# Altium schematic symbol library 二极管.SchLib: 14 symbols
Pins are listed as number, name and electrical type; pins without a type are passive.

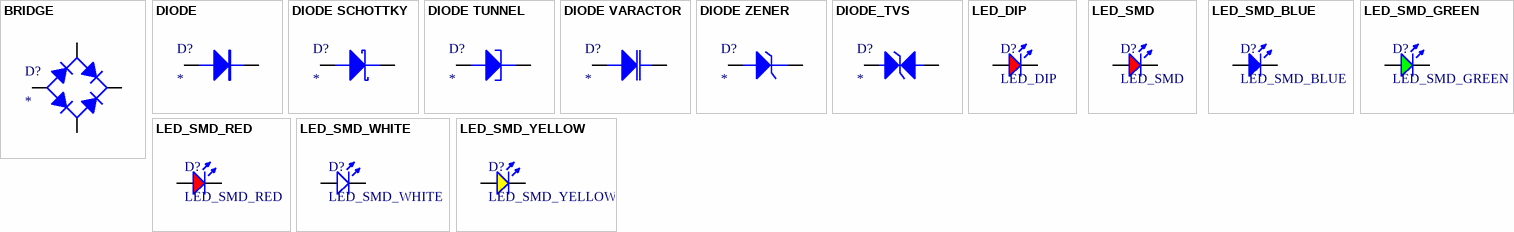
[diagram p0: symbols BRIDGE to LED_SMD_YELLOW]

## BRIDGE
designator D?
整流桥
footprint Bridge_br3
footprint Bridge_BR8
footprint Bridge_DB
footprint Bridge_DB107
footprint Bridge_DB107S
footprint Bridge_DBS
footprint Bridge_GBP
footprint Bridge_GBU
footprint Bridge_KBL
footprint Bridge_KBP
footprint Bridge_KBPC
footprint Bridge_KBPC2
footprint Bridge_KBU
footprint Bridge_MB10S
footprint Bridge_MBF
footprint Bridge_WOM
footprint Bridge_MBM
footprint Bridge_MBS
pins: AC1, AC2, DC+, DC-

## DIODE
designator D?
普通二极管
footprint DO-15
footprint DO-15L
footprint DO-15LV
footprint DO-15V
footprint DO-27
footprint DO-27V
footprint DO-35
footprint DO-35V
footprint DO-41
footprint DO-41G
footprint DO-41GV
footprint DO-41V
footprint DO-201AD
footprint DO-201ADV
footprint DIODE_1206
footprint DO-214AC/SMA (塑封二极管)
footprint DO-214AA/SMB (塑封二极管)
footprint DO-214AB/SMC (塑封二极管)
footprint SOD-123 (塑封二极管)
footprint SOD-323 (塑封二极管)
footprint SOD-523 (塑封二极管)
pins: A, K

## DIODE SCHOTTKY
designator D?
肖特基二极管
footprint DO-15
footprint DO-15L
footprint DO-15LV
footprint DO-15V
footprint DO-27
footprint DO-27V
footprint DO-35
footprint DO-35V
footprint DO-41
footprint DO-41G
footprint DO-41GV
footprint DO-41V
footprint DO-201AD
footprint DO-201ADV
footprint DIODE_1206
footprint DO-214AA/SMB (塑封二极管)
footprint DO-214AB/SMC (塑封二极管)
footprint DO-214AC/SMA (塑封二极管)
footprint SOD-123 (塑封二极管)
footprint SOD-323 (塑封二极管)
footprint SOD-523 (塑封二极管)
pins: A, K

## DIODE TUNNEL
designator D?
隧道二极管
footprint DO-15
footprint DO-15L
footprint DO-15LV
footprint DO-15V
footprint DO-27
footprint DO-27V
footprint DO-35
footprint DO-35V
footprint DO-41
footprint DO-41G
footprint DO-41GV
footprint DO-41V
footprint DO-201AD
footprint DO-201ADV
footprint DIODE_1206
footprint DO-214AC/SMA (塑封二极管)
footprint DO-214AA/SMB (塑封二极管)
footprint DO-214AB/SMC (塑封二极管)
footprint SOD-123 (塑封二极管)
footprint SOD-323 (塑封二极管)
footprint SOD-523 (塑封二极管)
pins: A, K

## DIODE VARACTOR
designator D?
变容二极管
footprint DO-15
footprint DO-15L
footprint DO-15LV
footprint DO-15V
footprint DO-27
footprint DO-27V
footprint DO-35
footprint DO-35V
footprint DO-41
footprint DO-41G
footprint DO-41GV
footprint DO-41V
footprint DO-201AD
footprint DO-201ADV
footprint DIODE_1206
footprint DO-214AC/SMA (塑封二极管)
footprint DO-214AA/SMB (塑封二极管)
footprint DO-214AB/SMC (塑封二极管)
footprint SOD-123 (塑封二极管)
footprint SOD-323 (塑封二极管)
footprint SOD-523 (塑封二极管)
pins: A, K

## DIODE ZENER
designator D?
稳压二极管
footprint DO-15
footprint DO-15L
footprint DO-15LV
footprint DO-15V
footprint DO-27
footprint DO-27V
footprint DO-35
footprint DO-35V
footprint DO-41
footprint DO-41G
footprint DO-41GV
footprint DO-41V
footprint DO-201AD
footprint DO-201ADV
footprint DIODE_1206
footprint DO-214AC/SMA (塑封二极管)
footprint DO-214AA/SMB (塑封二极管)
footprint DO-214AB/SMC (塑封二极管)
footprint SOD-123 (塑封二极管)
footprint SOD-323 (塑封二极管)
footprint SOD-523 (塑封二极管)
pins: A, K

## DIODE_TVS
designator D?
双向瞬态抑制二极管
footprint DO-15
footprint DO-15L
footprint DO-15LV
footprint DO-15V
footprint DO-27
footprint DO-27V
footprint DO-35
footprint DO-35V
footprint DO-41
footprint DO-41G
footprint DO-41GV
footprint DO-41V
footprint DO-201AD
footprint DO-201ADV
footprint DIODE_1206
footprint DO-214AC/SMA (塑封二极管)
footprint DO-214AA/SMB (塑封二极管)
footprint DO-214AB/SMC (塑封二极管)
footprint SOD-123 (塑封二极管)
footprint SOD-323 (塑封二极管)
footprint SOD-523 (塑封二极管)
pins: A, K

## LED_DIP
designator D?
发光二极管
footprint LED_3MM
footprint LED_3MM_3PIN
footprint LED_3MM_RA
footprint LED_5MM
footprint LED_5MM_RA
footprint LED_5MM_3PIN
footprint LED_5MM_RGB
pins: 1 A, 2 K

## LED_SMD
designator D?
发光二极管
footprint LED_2835
footprint LED_3528
footprint LED_3528_RGB
footprint LED_5050
footprint LED_5730
pins: 1 A, 2 K

## LED_SMD_BLUE
designator D?
发光二极管; ComponentLink1Description: 供应商链接; ComponentLink1URL: http://www.szlcsc.com/product/details_73150.html; Package: 0603; Supplier: LC; SuppliersPartNumber: C72041
footprint LED_0603_B
footprint LED_0805_B
footprint LED_1206_B
pins: 1 A, 2 K

## LED_SMD_GREEN
designator D?
发光二极管; ComponentLink1Description: 供应商链接; ComponentLink1URL: http://www.szlcsc.com/product/details_73152.html; Package: 0603; Supplier: LC; SuppliersPartNumber: C72043
footprint LED_0603_G
footprint LED_0805_G
footprint LED_1206_G
pins: 1 A, 2 K

## LED_SMD_RED
designator D?
发光二极管; ComponentLink1Description: 供应商链接; ComponentLink1URL: http://www.szlcsc.com/product/details_2659.html; Package: 0603; Supplier: LC; SuppliersPartNumber: C2286
footprint LED_0603_R
footprint LED_0805_R
footprint LED_1206_R
pins: 1 A, 2 K

## LED_SMD_WHITE
designator D?
发光二极管; ComponentLink1Description: 供应商链接; ComponentLink1URL: http://www.szlcsc.com/product/details_2663.html; Package: 0603; Supplier: LC; SuppliersPartNumber: C2290
footprint LED_0603_W
footprint LED_0805_W
footprint LED_1206_W
pins: 1 A, 2 K

## LED_SMD_YELLOW
designator D?
发光二极管; ComponentLink1Description: 供应商链接; ComponentLink1URL: http://www.szlcsc.com/product/details_73147.html; Package: 0603; Supplier: LC; SuppliersPartNumber: C72038
footprint LED_0603_Y
footprint LED_0805_Y
footprint LED_1206_Y
pins: 1 A, 2 K